# EAGLE library part MC33063A (library Synapseware)
1.5-A PEAK BOOST/BUCK/INVERTING SWITCHING REGULATORS The MC33063A and MC34063A are easy-to-use ICs containing all the primary circuitry needed for building simple dc-dc converters. These devices primarily consist of an internal temperature-compensated reference, a comparator, an oscillator, a PWM controller with active current limiting, a driver, and a high-current output switch. Thus, the devices require minimal external components to build converters in the boost, buck, and inverting topologies.
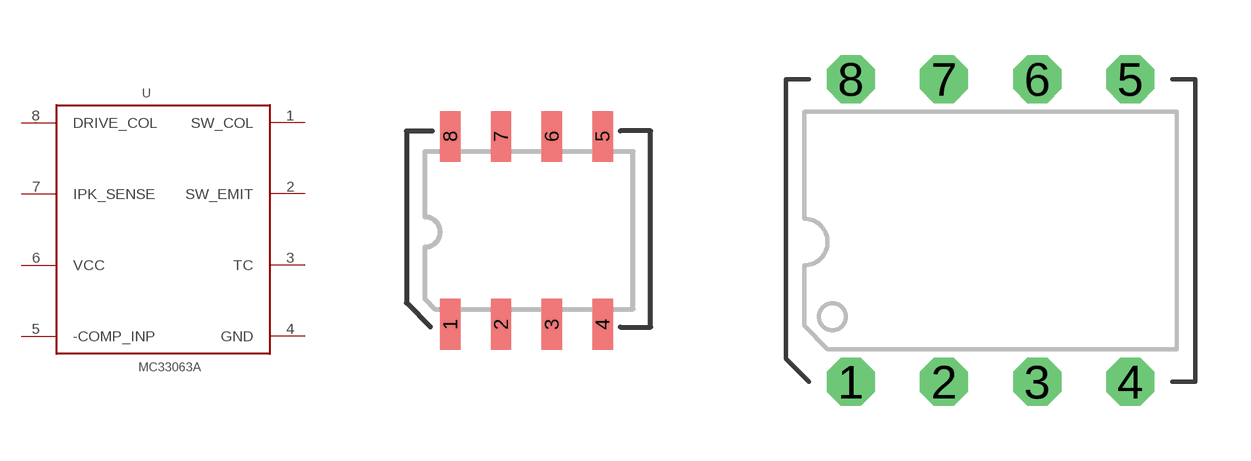
[diagram p5: symbol with the pads of SOIC-8; footprints SOIC-8, PDIP-8]

Designator prefix -

## MC33063AMC34063A  [SOIC-8]
1  SW_COL
2  SW_EMIT
3  TC
4  GND
5  -COMP_INP
6  VCC
7  IPK_SENSE
8  DRIVE_COL

## MC33063AMC34036AP  [PDIP-8]
Pads as for SOIC-8

## Footprint SOIC-8 (pad centres in mm)
SOIC-8 (8S1)
smd 0.508 x 1.27: 1 0.381,-0.254; 2 1.651,-0.254; 3 2.921,-0.254; 4 4.191,-0.254; 5 4.191,4.445; 6 2.921,4.445; 7 1.651,4.445; 8 0.381,4.445

## Footprint PDIP-8 (pad centres in mm)
PDIP-8
drill 0.8 octagon: 1 0,0; 2 2.54,0; 3 5.08,0; 4 7.62,0; 5 7.62,8.255; 6 5.08,8.255; 7 2.54,8.255; 8 0,8.255